# EAGLE library part DEC4015 (library dec-con)
Quad latch, used in early DEC boards.
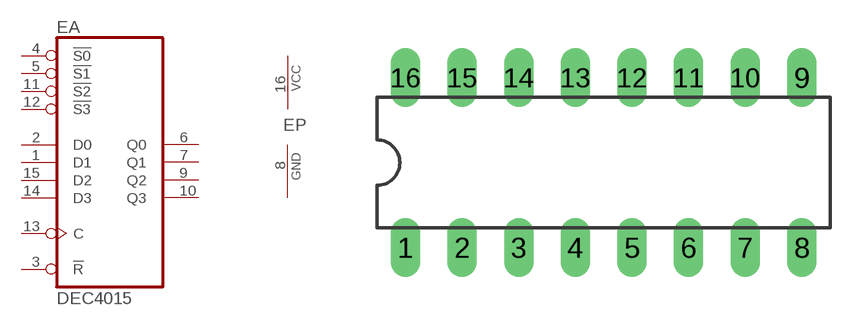
[diagram p70: symbol with the pads of DIL16; footprint DIL16]

Designator prefix E; gates A=DEC4015 P=PWRN

## DEC4015  [DIL16]
1  A:D1  in
2  A:D0  in
3  A:!R  in
4  A:!S0  in
5  A:!S1  in
6  A:Q0  out
7  A:Q1  out
8  P:GND  pwr
9  A:Q2  out
10  A:Q3  out
11  A:!S2  in
12  A:!S3  in
13  A:C
14  A:D3  in
15  A:D2  in
16  P:VCC  pwr

## Footprint DIL16 (pad centres in mm)
Dual In Line Package
drill 0.813 long: 1 -8.89,-3.81; 2 -6.35,-3.81; 3 -3.81,-3.81; 4 -1.27,-3.81; 5 1.27,-3.81; 6 3.81,-3.81; 7 6.35,-3.81; 8 8.89,-3.81; 9 8.89,3.81; 10 6.35,3.81; 11 3.81,3.81; 12 1.27,3.81; 13 -1.27,3.81; 14 -3.81,3.81; 15 -6.35,3.81; 16 -8.89,3.81